# Altium schematic symbol library 653002113322.SchLib: 1 symbol
Pins are listed as number, name and electrical type; pins without a type are passive.

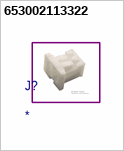
[diagram p0: symbol 653002113322]

## 653002113322
designator J?